# Altium integrated library TI_Logic_Little_Logic.IntLib: 1164 symbols (part 30 of 35)
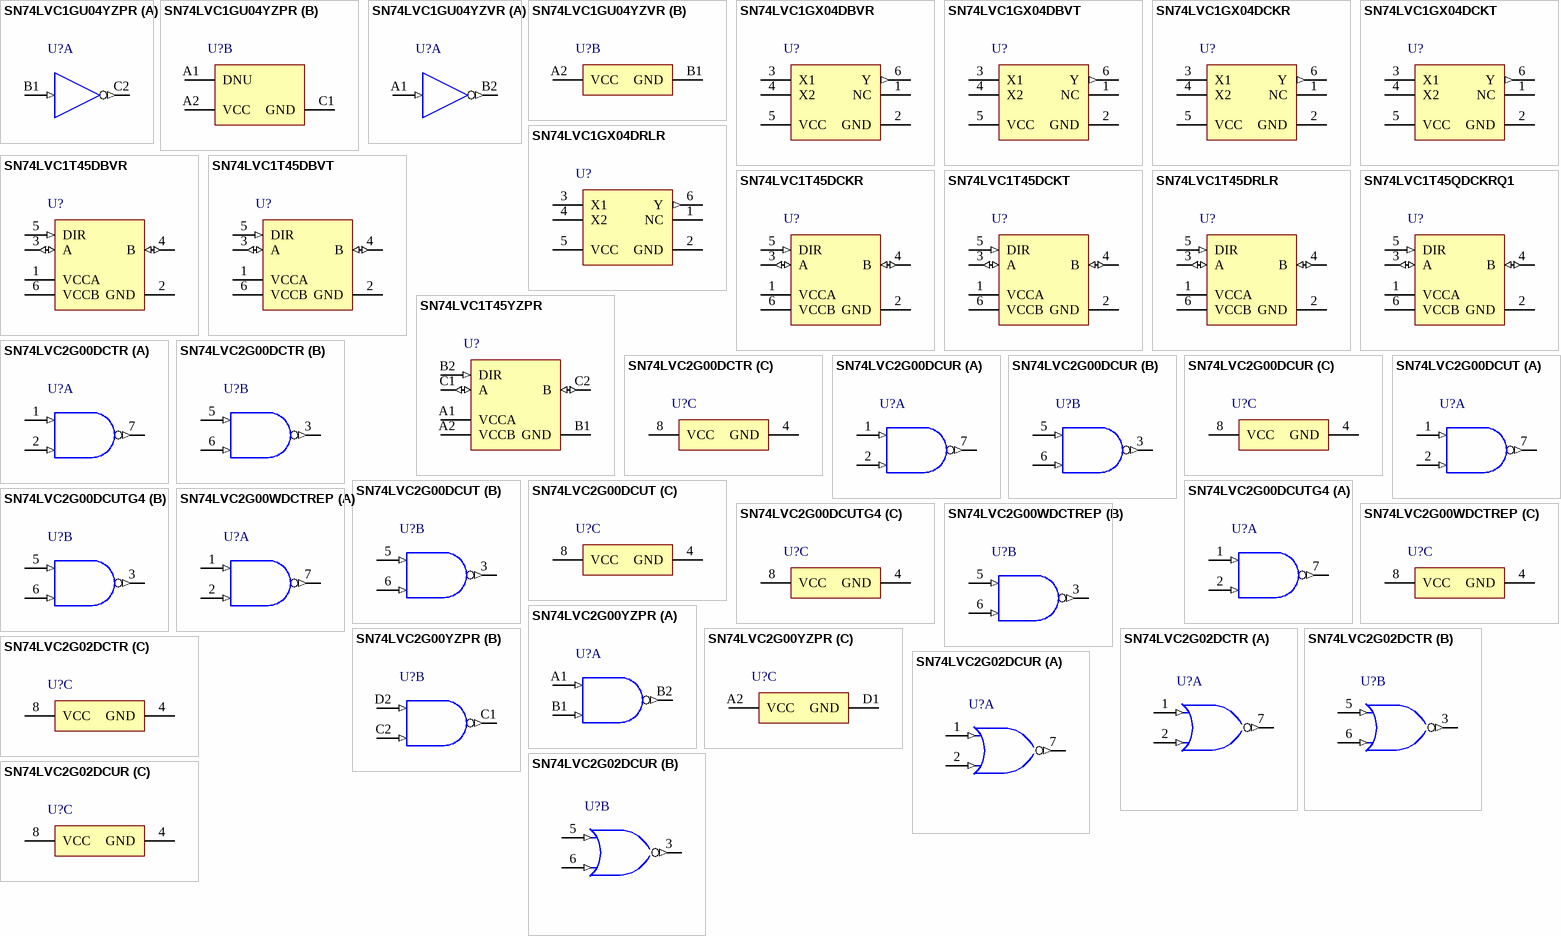
[diagram p89: symbols SN74LVC1GU04YZPR to SN74LVC2G02DCUR]

## SN74LVC1T45DBVT
designator U?
Single-Bit Dual-Supply Bus Transceiver with Configurable Voltage Translation and 3-State Outputs, DBV0006A, SMALL T&R; Generic Part Number: SN74LVC1T45; Manufacturer: Texas Instruments; PartNumber: SN74LVC1T45DBVT; VCC(Min)(V): 1.65; VCC(Max)(V): 5.5; Output Type: CMOS; ICC @ Nom Voltage(Max)(mA): 0.004; Input Type: CMOS/TTL; Bits(#): 1; F @ Nom Voltage(Max)(Mhz): 150; Rating: Catalog; Technology Family: LVC; Voltage(Nom)(V): 1.8,2.5,3.3,5; Schmitt Trigger: No; Output Drive (IOL/IOH)(Max)(mA): 32/-32; tpd @ Nom Voltage(Max)(ns): 15.5,8,5.8,4.4; Logic: True; Sub-Family: Dual Supply Translator; 3-State Output: Yes; DatasheetVersion: SCES515K; PackageReference: DBV0006A; Supplier 1: Mouser; Supplier Part Number 1: 595-SN74LVC1T45DBVT; Supplier 2: Digi-Key; Supplier Part Number 2: 296-30381-2-ND; Supplier 3: Digi-Key; Supplier Part Number 3: 296-30381-1-ND; Supplier 4: Digi-Key; Supplier Part Number 4: 296-30381-6-ND; Operating Temperature Range(C): -40 to 85; ComponentLink1Description: Manufacturer URL; ComponentLink1URL: http://www.ti.com/; ComponentLink2Description: Datasheet; ComponentLink2URL: http://www.ti.com/lit/ds/symlink/sn74lvc1t45.pdf
footprint DBV0006A_N (SOT23, 6-Leads, Body 3.05x1.75mm, Pitch 0.95mm, IPC Medium Density)
footprint DBV0006A_M (SOT23, 6-Leads, Body 3.05x1.75mm, Pitch 0.95mm, IPC Low Density)
footprint DBV0006A_L (SOT23, 6-Leads, Body 3.05x1.75mm, Pitch 0.95mm, IPC High Density)
pins: 1 VCCA (power), 2 GND (power), 3 A (io), 4 B (io), 5 DIR (in), 6 VCCB (power)

## SN74LVC1T45DCKR
designator U?
Single-Bit Dual-Supply Bus Transceiver with Configurable Voltage Translation and 3-State Outputs, DCK0006A, LARGE T&R; Generic Part Number: SN74LVC1T45; Manufacturer: Texas Instruments; PartNumber: SN74LVC1T45DCKR; VCC(Min)(V): 1.65; VCC(Max)(V): 5.5; Output Type: CMOS; ICC @ Nom Voltage(Max)(mA): 0.004; Input Type: CMOS/TTL; Bits(#): 1; F @ Nom Voltage(Max)(Mhz): 150; Rating: Catalog; Technology Family: LVC; Voltage(Nom)(V): 1.8,2.5,3.3,5; Schmitt Trigger: No; Output Drive (IOL/IOH)(Max)(mA): 32/-32; tpd @ Nom Voltage(Max)(ns): 15.5,8,5.8,4.4; Logic: True; Sub-Family: Dual Supply Translator; 3-State Output: Yes; DatasheetVersion: SCES515K; PackageReference: DCK0006A; Supplier 1: Mouser; Supplier Part Number 1: 595-SN74LVC1T45DCKR; Supplier 2: Digi-Key; Supplier Part Number 2: 296-16844-2-ND; Supplier 3: Digi-Key; Supplier Part Number 3: 296-16844-1-ND; Supplier 4: Digi-Key; Supplier Part Number 4: 296-16844-6-ND; Operating Temperature Range(C): -40 to 85; ComponentLink1Description: Manufacturer URL; ComponentLink1URL: http://www.ti.com/; ComponentLink2Description: Datasheet; ComponentLink2URL: http://www.ti.com/lit/ds/symlink/sn74lvc1t45.pdf
footprint DCK0006A_N (SOT23, 6-Leads, Body 2.15x1.4mm, Pitch 0.65mm, IPC Medium Density)
footprint DCK0006A_M (SOT23, 6-Leads, Body 2.15x1.4mm, Pitch 0.65mm, IPC Low Density)
footprint DCK0006A_L (SOT23, 6-Leads, Body 2.15x1.4mm, Pitch 0.65mm, IPC High Density)
pins: 1 VCCA (power), 2 GND (power), 3 A (io), 4 B (io), 5 DIR (in), 6 VCCB (power)

## SN74LVC1T45DCKT
designator U?
Single-Bit Dual-Supply Bus Transceiver with Configurable Voltage Translation and 3-State Outputs, DCK0006A, SMALL T&R; Generic Part Number: SN74LVC1T45; Manufacturer: Texas Instruments; PartNumber: SN74LVC1T45DCKT; VCC(Min)(V): 1.65; VCC(Max)(V): 5.5; Output Type: CMOS; ICC @ Nom Voltage(Max)(mA): 0.004; Input Type: CMOS/TTL; Bits(#): 1; F @ Nom Voltage(Max)(Mhz): 150; Rating: Catalog; Technology Family: LVC; Voltage(Nom)(V): 1.8,2.5,3.3,5; Schmitt Trigger: No; Output Drive (IOL/IOH)(Max)(mA): 32/-32; tpd @ Nom Voltage(Max)(ns): 15.5,8,5.8,4.4; Logic: True; Sub-Family: Dual Supply Translator; 3-State Output: Yes; DatasheetVersion: SCES515K; PackageReference: DCK0006A; Supplier 1: Mouser; Supplier Part Number 1: 595-SN74LVC1T45DCKT; Supplier 2: Digi-Key; Supplier Part Number 2: 296-32317-2-ND; Supplier 3: Digi-Key; Supplier Part Number 3: 296-32317-1-ND; Supplier 4: Digi-Key; Supplier Part Number 4: 296-32317-6-ND; Operating Temperature Range(C): -40 to 85; ComponentLink1Description: Manufacturer URL; ComponentLink1URL: http://www.ti.com/; ComponentLink2Description: Datasheet; ComponentLink2URL: http://www.ti.com/lit/ds/symlink/sn74lvc1t45.pdf
footprint DCK0006A_N (SOT23, 6-Leads, Body 2.15x1.4mm, Pitch 0.65mm, IPC Medium Density)
footprint DCK0006A_M (SOT23, 6-Leads, Body 2.15x1.4mm, Pitch 0.65mm, IPC Low Density)
footprint DCK0006A_L (SOT23, 6-Leads, Body 2.15x1.4mm, Pitch 0.65mm, IPC High Density)
pins: 1 VCCA (power), 2 GND (power), 3 A (io), 4 B (io), 5 DIR (in), 6 VCCB (power)

## SN74LVC1T45DRLR
designator U?
Single-Bit Dual-Supply Bus Transceiver with Configurable Voltage Translation and 3-State Outputs, DRL0006A, LARGE T&R; Generic Part Number: SN74LVC1T45; Manufacturer: Texas Instruments; PartNumber: SN74LVC1T45DRLR; VCC(Min)(V): 1.65; VCC(Max)(V): 5.5; Output Type: CMOS; ICC @ Nom Voltage(Max)(mA): 0.004; Input Type: CMOS/TTL; Bits(#): 1; F @ Nom Voltage(Max)(Mhz): 150; Rating: Catalog; Technology Family: LVC; Voltage(Nom)(V): 1.8,2.5,3.3,5; Schmitt Trigger: No; Output Drive (IOL/IOH)(Max)(mA): 32/-32; tpd @ Nom Voltage(Max)(ns): 15.5,8,5.8,4.4; Logic: True; Sub-Family: Dual Supply Translator; 3-State Output: Yes; DatasheetVersion: SCES515K; PackageReference: DRL0006A; Supplier 1: Mouser; Supplier Part Number 1: 595-SN74LVC1T45DRLR; Supplier 2: Digi-Key; Supplier Part Number 2: 296-20629-2-ND; Supplier 3: Digi-Key; Supplier Part Number 3: 296-20629-1-ND; Supplier 4: Digi-Key; Supplier Part Number 4: 296-20629-6-ND; Operating Temperature Range(C): -40 to 85; ComponentLink1Description: Manufacturer URL; ComponentLink1URL: http://www.ti.com/; ComponentLink2Description: Datasheet; ComponentLink2URL: http://www.ti.com/lit/ds/symlink/sn74lvc1t45.pdf
footprint DRL0006A_N (SOT23, 6-Leads, Body 1.7x1.3mm, Pitch 0.5mm, IPC Medium Density)
footprint DRL0006A_M (SOT23, 6-Leads, Body 1.7x1.3mm, Pitch 0.5mm, IPC Low Density)
footprint DRL0006A_L (SOT23, 6-Leads, Body 1.7x1.3mm, Pitch 0.5mm, IPC High Density)
pins: 1 VCCA (power), 2 GND (power), 3 A (io), 4 B (io), 5 DIR (in), 6 VCCB (power)

## SN74LVC1T45QDCKRQ1
designator U?
Automotive Catalog Single-Bit Dual-Supply Bus Transceiver with Configurable Voltage Translation and, DCK0006A, LARGE T&R; Generic Part Number: SN74LVC1T45-Q1; Manufacturer: Texas Instruments; PartNumber: SN74LVC1T45QDCKRQ1; VCC(Min)(V): 1.65; VCC(Max)(V): 5.5; Output Type: CMOS; Logic: True; ICC @ Nom Voltage(Max)(mA): 0.004; Input Type: CMOS/TTL; Bits(#): 1; F @ Nom Voltage(Max)(Mhz): 150; Technology Family: LVC; Voltage(Nom)(V): 1.8,2.5,3.3,5; Schmitt Trigger: No; Output Drive (IOL/IOH)(Max)(mA): 32/-32; Sub-Family: Dual Supply Translator; 3-State Output: Yes; tpd @ Nom Voltage(Max)(ns): 18.5,11,8.8,7.4; DatasheetVersion: SCES677B; PackageReference: DCK0006A; Supplier 1: Mouser; Supplier Part Number 1: 595-74LVC1T45QDCKRQ1; Supplier 2: Digi-Key; Supplier Part Number 2: 296-39212-2-ND; Supplier 3: Digi-Key; Supplier Part Number 3: 296-39212-1-ND; Supplier 4: Digi-Key; Supplier Part Number 4: 296-39212-6-ND; Operating Temperature Range(C): -40 to 125; Rating: Automotive; ComponentLink1Description: Manufacturer URL; ComponentLink1URL: http://www.ti.com/; ComponentLink2Description: Datasheet; ComponentLink2URL: http://www.ti.com/lit/ds/symlink/sn74lvc1t45-q1.pdf
footprint DCK0006A_N (SOT23, 6-Leads, Body 2.15x1.4mm, Pitch 0.65mm, IPC Medium Density)
footprint DCK0006A_M (SOT23, 6-Leads, Body 2.15x1.4mm, Pitch 0.65mm, IPC Low Density)
footprint DCK0006A_L (SOT23, 6-Leads, Body 2.15x1.4mm, Pitch 0.65mm, IPC High Density)
pins: 1 VCCA (power), 2 GND (power), 3 A (io), 4 B (io), 5 DIR (in), 6 VCCB (power)

## SN74LVC1T45YZPR
designator U?
Single-Bit Dual-Supply Bus Transceiver with Configurable Voltage Translation and 3-State Outputs, YZP0006ADAD, LARGE T&R; Generic Part Number: SN74LVC1T45; Manufacturer: Texas Instruments; PartNumber: SN74LVC1T45YZPR; VCC(Min)(V): 1.65; VCC(Max)(V): 5.5; Output Type: CMOS; ICC @ Nom Voltage(Max)(mA): 0.004; Input Type: CMOS/TTL; Bits(#): 1; F @ Nom Voltage(Max)(Mhz): 150; Rating: Catalog; Technology Family: LVC; Voltage(Nom)(V): 1.8,2.5,3.3,5; Schmitt Trigger: No; Output Drive (IOL/IOH)(Max)(mA): 32/-32; tpd @ Nom Voltage(Max)(ns): 15.5,8,5.8,4.4; Logic: True; Sub-Family: Dual Supply Translator; 3-State Output: Yes; DatasheetVersion: SCES515K; PackageReference: YZP0006ADAD; Supplier 1: Mouser; Supplier Part Number 1: 595-SN74LVC1T45YZPR; Supplier 2: Digi-Key; Supplier Part Number 2: 296-17018-2-ND; Supplier 3: Digi-Key; Supplier Part Number 3: 296-17018-1-ND; Supplier 4: Digi-Key; Supplier Part Number 4: 296-17018-6-ND; Operating Temperature Range(C): -40 to 85; ComponentLink1Description: Manufacturer URL; ComponentLink1URL: http://www.ti.com/; ComponentLink2Description: Datasheet; ComponentLink2URL: http://www.ti.com/lit/ds/symlink/sn74lvc1t45.pdf
footprint YZP0006ADAD (BGA, 6-Balls, Body 1.39x0.89mm, Pitch 0.5mm)
pins: A1 VCCA (power) "A-port supply voltage. 1.2 V =< VCCA =< 3.6 V", A2 VCCB (power) "B-port supply voltage. 1.2 V =< VCCB =< 3.6 V", B1 GND (power) "Ground", B2 DIR (in) "Direction control signal", C1 A (io) "Input/output A. Referenced to VCCA", C2 B (io) "Input/output B. Referenced to VCCB."

## SN74LVC2G00DCTR
designator U?
Dual 2-Input Positive-NAND Gate, DCT0008A, LARGE T&R; Generic Part Number: SN74LVC2G00; Manufacturer: Texas Instruments; PartNumber: SN74LVC2G00DCTR; VCC(Min)(V): 1.65; VCC(Max)(V): 5.5; Output Type: CMOS; ICC @ Nom Voltage(Max)(mA): 0.01; Input Type: CMOS/TTL; Bits(#): 2; F @ Nom Voltage(Max)(Mhz): 150; Rating: Catalog; Technology Family: LVC; Voltage(Nom)(V): 1.8,2.5,3.3,5; Schmitt Trigger: No; Output Drive (IOL/IOH)(Max)(mA): 32/-32; tpd @ Nom Voltage(Max)(ns): 9.4,5.5,4.9,3.8; Logic: True; Gate Type: NAND; DatasheetVersion: SCES193N; PackageReference: DCT0008A; Supplier 1: Mouser; Supplier Part Number 1: 595-SN74LVC2G00DCTR; Supplier 2: Digi-Key; Supplier Part Number 2: 296-13257-2-ND; Supplier 3: Digi-Key; Supplier Part Number 3: 296-13257-1-ND; Supplier 4: Digi-Key; Supplier Part Number 4: 296-13257-6-ND; Operating Temperature Range(C): -40 to 125; Sub-Family: NAND Gate; 3-State Output: No; ComponentLink1Description: Manufacturer URL; ComponentLink1URL: http://www.ti.com/; ComponentLink2Description: Datasheet; ComponentLink2URL: http://www.ti.com/lit/ds/symlink/sn74lvc2g00.pdf
footprint DCT0008A_N (SOP, 8-Leads, Body 2.9x3.2mm, Pitch 0.65mm, IPC Medium Density)
footprint DCT0008A_M (SOP, 8-Leads, Body 2.9x3.2mm, Pitch 0.65mm, IPC Low Density)
footprint DCT0008A_L (SOP, 8-Leads, Body 2.9x3.2mm, Pitch 0.65mm, IPC High Density)
part A pins: 1 1A (in) "A input for gate 1", 2 1B (in) "B input for gate 1", 7 1Y (out) "Output for gate 1"
part B pins: 3 2Y (out) "Output for gate 2", 5 2A (in) "A input for gate 2", 6 2B (in) "B input for gate 2"
part C pins: 4 GND (power) "Ground", 8 VCC (power) "Power input."

## SN74LVC2G00DCUR
designator U?
Dual 2-Input Positive-NAND Gate, DCU0008A, LARGE T&R; Generic Part Number: SN74LVC2G00; Manufacturer: Texas Instruments; PartNumber: SN74LVC2G00DCUR; VCC(Min)(V): 1.65; VCC(Max)(V): 5.5; Output Type: CMOS; ICC @ Nom Voltage(Max)(mA): 0.01; Input Type: CMOS/TTL; Bits(#): 2; F @ Nom Voltage(Max)(Mhz): 150; Rating: Catalog; Technology Family: LVC; Voltage(Nom)(V): 1.8,2.5,3.3,5; Schmitt Trigger: No; Output Drive (IOL/IOH)(Max)(mA): 32/-32; tpd @ Nom Voltage(Max)(ns): 9.4,5.5,4.9,3.8; Logic: True; Gate Type: NAND; DatasheetVersion: SCES193N; PackageReference: DCU0008A; Supplier 1: Mouser; Supplier Part Number 1: 595-SN74LVC2G00DCUR; Supplier 2: Digi-Key; Supplier Part Number 2: 296-13258-2-ND; Supplier 3: Digi-Key; Supplier Part Number 3: 296-13258-1-ND; Supplier 4: Digi-Key; Supplier Part Number 4: 296-13258-6-ND; Operating Temperature Range(C): -40 to 125; Sub-Family: NAND Gate; 3-State Output: No; ComponentLink1Description: Manufacturer URL; ComponentLink1URL: http://www.ti.com/; ComponentLink2Description: Datasheet; ComponentLink2URL: http://www.ti.com/lit/ds/symlink/sn74lvc2g00.pdf
footprint DCU0008A_N (SOP, 8-Leads, Body 2.4x2.1mm, Pitch 0.5mm, IPC Medium Density)
footprint DCU0008A_M (SOP, 8-Leads, Body 2.4x2.1mm, Pitch 0.5mm, IPC Low Density)
footprint DCU0008A_L (SOP, 8-Leads, Body 2.4x2.1mm, Pitch 0.5mm, IPC High Density)
part A pins: 1 1A (in) "A input for gate 1", 2 1B (in) "B input for gate 1", 7 1Y (out) "Output for gate 1"
part B pins: 3 2Y (out) "Output for gate 2", 5 2A (in) "A input for gate 2", 6 2B (in) "B input for gate 2"
part C pins: 4 GND (power) "Ground", 8 VCC (power) "Power input."

## SN74LVC2G00DCUT
designator U?
Dual 2-Input Positive-NAND Gate, DCU0008A, SMALL T&R; Generic Part Number: SN74LVC2G00; Manufacturer: Texas Instruments; PartNumber: SN74LVC2G00DCUT; VCC(Min)(V): 1.65; VCC(Max)(V): 5.5; Output Type: CMOS; ICC @ Nom Voltage(Max)(mA): 0.01; Input Type: CMOS/TTL; Bits(#): 2; F @ Nom Voltage(Max)(Mhz): 150; Rating: Catalog; Technology Family: LVC; Voltage(Nom)(V): 1.8,2.5,3.3,5; Schmitt Trigger: No; Output Drive (IOL/IOH)(Max)(mA): 32/-32; tpd @ Nom Voltage(Max)(ns): 9.4,5.5,4.9,3.8; Logic: True; Gate Type: NAND; DatasheetVersion: SCES193N; PackageReference: DCU0008A; Supplier 1: Mouser; Supplier Part Number 1: 595-SN74LVC2G00DCUT; Supplier 2: Digi-Key; Supplier Part Number 2: 296-32318-2-ND; Supplier 3: Digi-Key; Supplier Part Number 3: 296-32318-1-ND; Supplier 4: Digi-Key; Supplier Part Number 4: 296-32318-6-ND; Operating Temperature Range(C): -40 to 125; Sub-Family: NAND Gate; 3-State Output: No; ComponentLink1Description: Manufacturer URL; ComponentLink1URL: http://www.ti.com/; ComponentLink2Description: Datasheet; ComponentLink2URL: http://www.ti.com/lit/ds/symlink/sn74lvc2g00.pdf
footprint DCU0008A_N (SOP, 8-Leads, Body 2.4x2.1mm, Pitch 0.5mm, IPC Medium Density)
footprint DCU0008A_M (SOP, 8-Leads, Body 2.4x2.1mm, Pitch 0.5mm, IPC Low Density)
footprint DCU0008A_L (SOP, 8-Leads, Body 2.4x2.1mm, Pitch 0.5mm, IPC High Density)
part A pins: 1 1A (in) "A input for gate 1", 2 1B (in) "B input for gate 1", 7 1Y (out) "Output for gate 1"
part B pins: 3 2Y (out) "Output for gate 2", 5 2A (in) "A input for gate 2", 6 2B (in) "B input for gate 2"
part C pins: 4 GND (power) "Ground", 8 VCC (power) "Power input."

## SN74LVC2G00DCUTG4
designator U?
Dual 2-Input Positive-NAND Gate, DCU0008A, SMALL T&R; Generic Part Number: SN74LVC2G00; Manufacturer: Texas Instruments; PartNumber: SN74LVC2G00DCUTG4; VCC(Min)(V): 1.65; VCC(Max)(V): 5.5; Output Type: CMOS; ICC @ Nom Voltage(Max)(mA): 0.01; Input Type: CMOS/TTL; Bits(#): 2; F @ Nom Voltage(Max)(Mhz): 150; Rating: Catalog; Technology Family: LVC; Voltage(Nom)(V): 1.8,2.5,3.3,5; Schmitt Trigger: No; Output Drive (IOL/IOH)(Max)(mA): 32/-32; tpd @ Nom Voltage(Max)(ns): 9.4,5.5,4.9,3.8; Logic: True; Gate Type: NAND; DatasheetVersion: SCES193N; PackageReference: DCU0008A; Supplier 1: Mouser; Supplier Part Number 1: 595-74LVC2G00DCUTG4; Supplier 2: Digi-Key; Supplier Part Number 2: SN74LVC2G00DCUTG4-ND; Operating Temperature Range(C): -40 to 125; Sub-Family: NAND Gate; 3-State Output: No; ComponentLink1Description: Manufacturer URL; ComponentLink1URL: http://www.ti.com/; ComponentLink2Description: Datasheet; ComponentLink2URL: http://www.ti.com/lit/ds/symlink/sn74lvc2g00.pdf
footprint DCU0008A_N (SOP, 8-Leads, Body 2.4x2.1mm, Pitch 0.5mm, IPC Medium Density)
footprint DCU0008A_M (SOP, 8-Leads, Body 2.4x2.1mm, Pitch 0.5mm, IPC Low Density)
footprint DCU0008A_L (SOP, 8-Leads, Body 2.4x2.1mm, Pitch 0.5mm, IPC High Density)
part A pins: 1 1A (in) "A input for gate 1", 2 1B (in) "B input for gate 1", 7 1Y (out) "Output for gate 1"
part B pins: 3 2Y (out) "Output for gate 2", 5 2A (in) "A input for gate 2", 6 2B (in) "B input for gate 2"
part C pins: 4 GND (power) "Ground", 8 VCC (power) "Power input."

## SN74LVC2G00WDCTREP
designator U?
Enhanced Product Dual 2-Input Positive-Nand Gate, DCT0008A, LARGE T&R; Generic Part Number: SN74LVC2G00W-EP; Manufacturer: Texas Instruments; PartNumber: SN74LVC2G00WDCTREP; VCC(Min)(V): 1.65; VCC(Max)(V): 5.5; Output Type: CMOS; ICC @ Nom Voltage(Max)(mA): 0.01; Input Type: CMOS/TTL; Bits(#): 2; F @ Nom Voltage(Max)(Mhz): 150; Rating: HiRel Enhanced Product; Technology Family: LVC; Voltage(Nom)(V): 1.8,2.5,3.3,5; Schmitt Trigger: No; Output Drive (IOL/IOH)(Max)(mA): 32/-32; tpd @ Nom Voltage(Max)(ns): 8.9,5.8,5.3,4.3; Logic: True; Gate Type: NAND; DatasheetVersion: SCES645; PackageReference: DCT0008A; Supplier 1: Mouser; Supplier Part Number 1: 595-SN74L2G00WDCTREP; Supplier 2: Digi-Key; Supplier Part Number 2: 296-19507-2-ND; Supplier 3: Digi-Key; Supplier Part Number 3: 296-19507-1-ND; Supplier 4: Digi-Key; Supplier Part Number 4: 296-19507-6-ND; Operating Temperature Range(C): -55 to 115; Sub-Family: NAND Gate; 3-State Output: No; ComponentLink1Description: Manufacturer URL; ComponentLink1URL: http://www.ti.com/; ComponentLink2Description: Datasheet; ComponentLink2URL: http://www.ti.com/lit/ds/symlink/sn74lvc2g00w-ep.pdf
footprint DCT0008A_N (SOP, 8-Leads, Body 2.9x3.2mm, Pitch 0.65mm, IPC Medium Density)
footprint DCT0008A_M (SOP, 8-Leads, Body 2.9x3.2mm, Pitch 0.65mm, IPC Low Density)
footprint DCT0008A_L (SOP, 8-Leads, Body 2.9x3.2mm, Pitch 0.65mm, IPC High Density)
part A pins: 1 1A (in) "A input for gate 1", 2 1B (in) "B input for gate 1", 7 1Y (out) "Output for gate 1"
part B pins: 3 2Y (out) "Output for gate 2", 5 2A (in) "A input for gate 2", 6 2B (in) "B input for gate 2"
part C pins: 4 GND (power) "Ground", 8 VCC (power) "Power input."

## SN74LVC2G00YZPR
designator U?
Dual 2-Input Positive-NAND Gate, YZP0008ADAD, LARGE T&R; Generic Part Number: SN74LVC2G00; Manufacturer: Texas Instruments; PartNumber: SN74LVC2G00YZPR; VCC(Min)(V): 1.65; VCC(Max)(V): 5.5; Output Type: CMOS; ICC @ Nom Voltage(Max)(mA): 0.01; Input Type: CMOS/TTL; Bits(#): 2; F @ Nom Voltage(Max)(Mhz): 150; Rating: Catalog; Technology Family: LVC; Voltage(Nom)(V): 1.8,2.5,3.3,5; Schmitt Trigger: No; Output Drive (IOL/IOH)(Max)(mA): 32/-32; tpd @ Nom Voltage(Max)(ns): 9.4,5.5,4.9,3.8; Logic: True; Gate Type: NAND; DatasheetVersion: SCES193N; PackageReference: YZP0008ADAD; Supplier 1: Mouser; Supplier Part Number 1: 595-SN74LVC2G00YZPR; Supplier 2: Digi-Key; Supplier Part Number 2: 296-18797-2-ND; Supplier 3: Digi-Key; Supplier Part Number 3: 296-18797-1-ND; Operating Temperature Range(C): -40 to 125; Sub-Family: NAND Gate; 3-State Output: No; ComponentLink1Description: Manufacturer URL; ComponentLink1URL: http://www.ti.com/; ComponentLink2Description: Datasheet; ComponentLink2URL: http://www.ti.com/lit/ds/symlink/sn74lvc2g00.pdf
footprint YZP0008ADAD (BGA, 8-Balls, Body 1.89x0.89mm, Pitch 0.5mm)
part A pins: A1 1A (in) "A input for gate 1", B1 1B (in) "B input for gate 1", B2 1Y (out) "Output for gate 1"
part B pins: C1 2Y (out) "Output for gate 2", C2 2B (in) "B input for gate 2", D2 2A (in) "A input for gate 2"
part C pins: A2 VCC (power) "Power input.", D1 GND (power) "Ground"

## SN74LVC2G02DCTR
designator U?
Dual 2-Input Positive-NOR Gate, DCT0008A, LARGE T&R; Generic Part Number: SN74LVC2G02; Manufacturer: Texas Instruments; PartNumber: SN74LVC2G02DCTR; VCC(Min)(V): 1.65; VCC(Max)(V): 5.5; Output Type: CMOS; ICC @ Nom Voltage(Max)(mA): 0.01; Input Type: CMOS/TTL; Bits(#): 2; F @ Nom Voltage(Max)(Mhz): 150; Rating: Catalog; Technology Family: LVC; Voltage(Nom)(V): 1.8,2.5,3.3,5; Schmitt Trigger: No; Output Drive (IOL/IOH)(Max)(mA): 32/-32; tpd @ Nom Voltage(Max)(ns): 10.9,6.4,5.9,5.4; Logic: True; Gate Type: NOR; DatasheetVersion: SCES194M; PackageReference: DCT0008A; Supplier 1: Mouser; Supplier Part Number 1: 595-SN74LVC2G02DCTR; Supplier 2: Digi-Key; Supplier Part Number 2: 296-13259-2-ND; Supplier 3: Digi-Key; Supplier Part Number 3: 296-13259-1-ND; Supplier 4: Digi-Key; Supplier Part Number 4: 296-13259-6-ND; Operating Temperature Range(C): -40 to 125; Sub-Family: NOR Gate; 3-State Output: No; ComponentLink1Description: Manufacturer URL; ComponentLink1URL: http://www.ti.com/; ComponentLink2Description: Datasheet; ComponentLink2URL: http://www.ti.com/lit/ds/symlink/sn74lvc2g02.pdf
footprint DCT0008A_N (SOP, 8-Leads, Body 2.9x3.2mm, Pitch 0.65mm, IPC Medium Density)
footprint DCT0008A_M (SOP, 8-Leads, Body 2.9x3.2mm, Pitch 0.65mm, IPC Low Density)
footprint DCT0008A_L (SOP, 8-Leads, Body 2.9x3.2mm, Pitch 0.65mm, IPC High Density)
part A pins: 1 1A (in), 2 1B (in), 7 1Y (out)
part B pins: 3 2Y (out), 5 2A (in), 6 2B (in)
part C pins: 4 GND (power), 8 VCC (power)

## SN74LVC2G02DCUR
designator U?
Dual 2-Input Positive-NOR Gate, DCU0008A, LARGE T&R; Generic Part Number: SN74LVC2G02; Manufacturer: Texas Instruments; PartNumber: SN74LVC2G02DCUR; VCC(Min)(V): 1.65; VCC(Max)(V): 5.5; Output Type: CMOS; ICC @ Nom Voltage(Max)(mA): 0.01; Input Type: CMOS/TTL; Bits(#): 2; F @ Nom Voltage(Max)(Mhz): 150; Rating: Catalog; Technology Family: LVC; Voltage(Nom)(V): 1.8,2.5,3.3,5; Schmitt Trigger: No; Output Drive (IOL/IOH)(Max)(mA): 32/-32; tpd @ Nom Voltage(Max)(ns): 10.9,6.4,5.9,5.4; Logic: True; Gate Type: NOR; DatasheetVersion: SCES194M; PackageReference: DCU0008A; Supplier 1: Mouser; Supplier Part Number 1: 595-SN74LVC2G02DCUR; Supplier 2: Digi-Key; Supplier Part Number 2: 296-13260-2-ND; Supplier 3: Digi-Key; Supplier Part Number 3: 296-13260-1-ND; Supplier 4: Digi-Key; Supplier Part Number 4: 296-13260-6-ND; Operating Temperature Range(C): -40 to 125; Sub-Family: NOR Gate; 3-State Output: No; ComponentLink1Description: Manufacturer URL; ComponentLink1URL: http://www.ti.com/; ComponentLink2Description: Datasheet; ComponentLink2URL: http://www.ti.com/lit/ds/symlink/sn74lvc2g02.pdf
footprint DCU0008A_N (SOP, 8-Leads, Body 2.4x2.1mm, Pitch 0.5mm, IPC Medium Density)
footprint DCU0008A_M (SOP, 8-Leads, Body 2.4x2.1mm, Pitch 0.5mm, IPC Low Density)
footprint DCU0008A_L (SOP, 8-Leads, Body 2.4x2.1mm, Pitch 0.5mm, IPC High Density)
part A pins: 1 1A (in), 2 1B (in), 7 1Y (out)
part B pins: 3 2Y (out), 5 2A (in), 6 2B (in)
part C pins: 4 GND (power), 8 VCC (power)

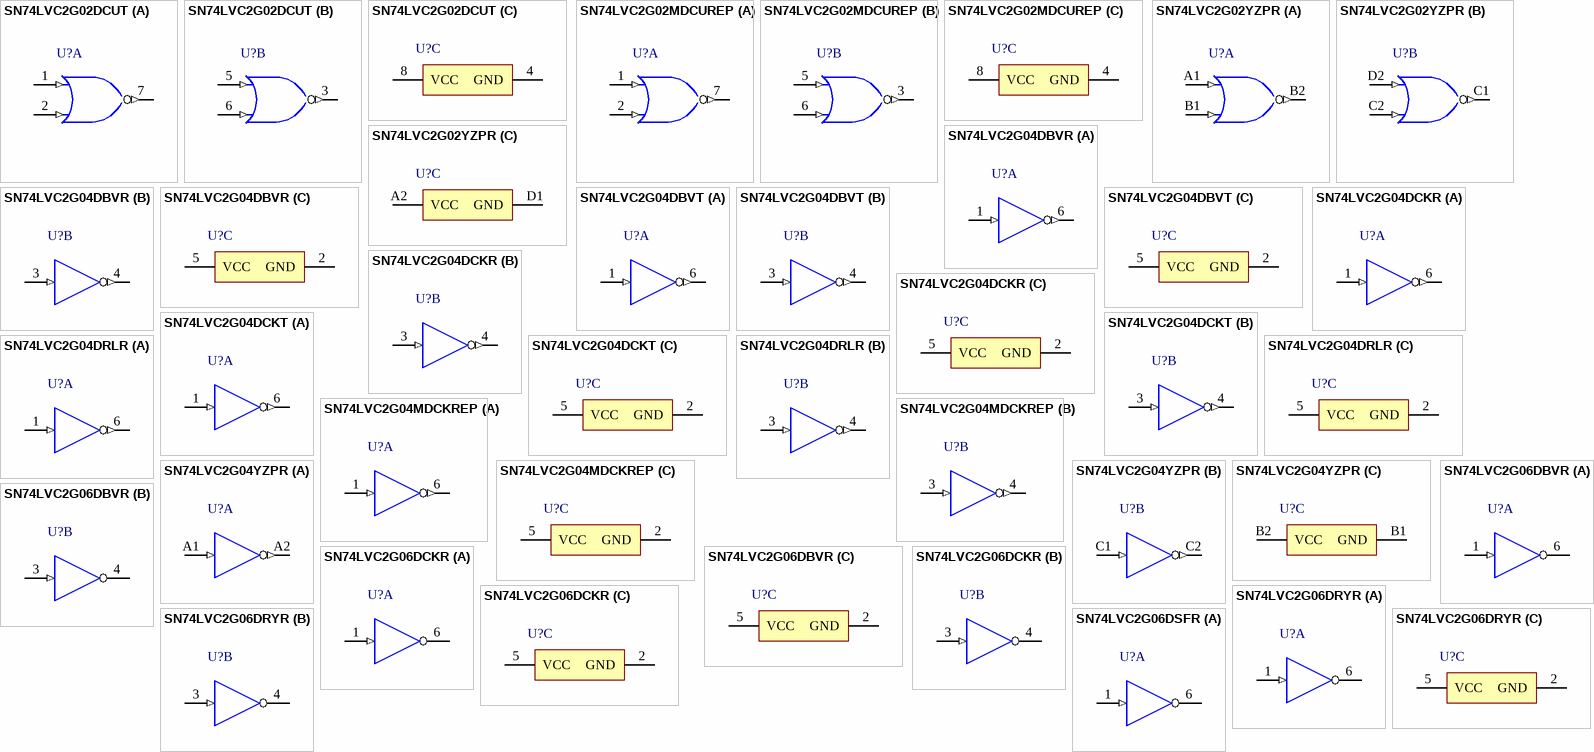
[diagram p48: symbols SN74LVC2G02DCUT to SN74LVC2G06DSFR]

## SN74LVC2G02DCUT
designator U?
Dual 2-Input Positive-NOR Gate, DCU0008A, SMALL T&R; Generic Part Number: SN74LVC2G02; Manufacturer: Texas Instruments; PartNumber: SN74LVC2G02DCUT; VCC(Min)(V): 1.65; VCC(Max)(V): 5.5; Output Type: CMOS; ICC @ Nom Voltage(Max)(mA): 0.01; Input Type: CMOS/TTL; Bits(#): 2; F @ Nom Voltage(Max)(Mhz): 150; Rating: Catalog; Technology Family: LVC; Voltage(Nom)(V): 1.8,2.5,3.3,5; Schmitt Trigger: No; Output Drive (IOL/IOH)(Max)(mA): 32/-32; tpd @ Nom Voltage(Max)(ns): 10.9,6.4,5.9,5.4; Logic: True; Gate Type: NOR; DatasheetVersion: SCES194M; PackageReference: DCU0008A; Supplier 1: Mouser; Supplier Part Number 1: 595-SN74LVC2G02DCUT; Supplier 2: Digi-Key; Supplier Part Number 2: 296-32319-2-ND; Supplier 3: Digi-Key; Supplier Part Number 3: 296-32319-1-ND; Supplier 4: Digi-Key; Supplier Part Number 4: 296-32319-6-ND; Operating Temperature Range(C): -40 to 125; Sub-Family: NOR Gate; 3-State Output: No; ComponentLink1Description: Manufacturer URL; ComponentLink1URL: http://www.ti.com/; ComponentLink2Description: Datasheet; ComponentLink2URL: http://www.ti.com/lit/ds/symlink/sn74lvc2g02.pdf
footprint DCU0008A_N (SOP, 8-Leads, Body 2.4x2.1mm, Pitch 0.5mm, IPC Medium Density)
footprint DCU0008A_M (SOP, 8-Leads, Body 2.4x2.1mm, Pitch 0.5mm, IPC Low Density)
footprint DCU0008A_L (SOP, 8-Leads, Body 2.4x2.1mm, Pitch 0.5mm, IPC High Density)
part A pins: 1 1A (in), 2 1B (in), 7 1Y (out)
part B pins: 3 2Y (out), 5 2A (in), 6 2B (in)
part C pins: 4 GND (power), 8 VCC (power)

## SN74LVC2G02MDCUREP
designator U?
Enhanced Product Dual 2-Input Positive-Nor Gate, DCU0008A, LARGE T&R; Generic Part Number: SN74LVC2G02-EP; Manufacturer: Texas Instruments; PartNumber: SN74LVC2G02MDCUREP; VCC(Min)(V): 1.65; VCC(Max)(V): 5.5; Output Type: CMOS; ICC @ Nom Voltage(Max)(mA): 0.01; Input Type: CMOS/TTL; Bits(#): 2; F @ Nom Voltage(Max)(Mhz): 150; Rating: HiRel Enhanced Product; Technology Family: LVC; Voltage(Nom)(V): 1.8,2.5,3.3,5; Schmitt Trigger: No; Output Drive (IOL/IOH)(Max)(mA): 32/-32; tpd @ Nom Voltage(Max)(ns): 5.9,5.4; Logic: True; Gate Type: NOR; DatasheetVersion: SGDS034A; PackageReference: DCU0008A; Supplier 1: Mouser; Supplier Part Number 1: 595-74LVC2G02MDCUREP; Operating Temperature Range(C): -55 to 125; Sub-Family: NOR Gate; 3-State Output: No; ComponentLink1Description: Manufacturer URL; ComponentLink1URL: http://www.ti.com/; ComponentLink2Description: Datasheet; ComponentLink2URL: http://www.ti.com/lit/ds/symlink/sn74lvc2g02-ep.pdf
footprint DCU0008A_N (SOP, 8-Leads, Body 2.4x2.1mm, Pitch 0.5mm, IPC Medium Density)
footprint DCU0008A_M (SOP, 8-Leads, Body 2.4x2.1mm, Pitch 0.5mm, IPC Low Density)
footprint DCU0008A_L (SOP, 8-Leads, Body 2.4x2.1mm, Pitch 0.5mm, IPC High Density)
part A pins: 1 1A (in), 2 1B (in), 7 1Y (out)
part B pins: 3 2Y (out), 5 2A (in), 6 2B (in)
part C pins: 4 GND (power), 8 VCC (power)

## SN74LVC2G02YZPR
designator U?
Dual 2-Input Positive-NOR Gate, YZP0008ADAD, LARGE T&R; Generic Part Number: SN74LVC2G02; Manufacturer: Texas Instruments; PartNumber: SN74LVC2G02YZPR; VCC(Min)(V): 1.65; VCC(Max)(V): 5.5; Output Type: CMOS; ICC @ Nom Voltage(Max)(mA): 0.01; Input Type: CMOS/TTL; Bits(#): 2; F @ Nom Voltage(Max)(Mhz): 150; Rating: Catalog; Technology Family: LVC; Voltage(Nom)(V): 1.8,2.5,3.3,5; Schmitt Trigger: No; Output Drive (IOL/IOH)(Max)(mA): 32/-32; tpd @ Nom Voltage(Max)(ns): 10.9,6.4,5.9,5.4; Logic: True; Gate Type: NOR; DatasheetVersion: SCES194M; PackageReference: YZP0008ADAD; Supplier 1: Mouser; Supplier Part Number 1: 595-SN74LVC2G02YZPR; Supplier 2: Digi-Key; Supplier Part Number 2: 296-18799-2-ND; Supplier 3: Digi-Key; Supplier Part Number 3: 296-18799-1-ND; Supplier 4: Digi-Key; Supplier Part Number 4: 296-18799-6-ND; Operating Temperature Range(C): -40 to 125; Sub-Family: NOR Gate; 3-State Output: No; ComponentLink1Description: Manufacturer URL; ComponentLink1URL: http://www.ti.com/; ComponentLink2Description: Datasheet; ComponentLink2URL: http://www.ti.com/lit/ds/symlink/sn74lvc2g02.pdf
footprint YZP0008ADAD (BGA, 8-Balls, Body 1.89x0.89mm, Pitch 0.5mm)
part A pins: A1 1A (in), B1 1B (in), B2 1Y (out)
part B pins: C1 2Y (out), C2 2B (in), D2 2A (in)
part C pins: A2 VCC (power), D1 GND (power)

## SN74LVC2G04DBVR
designator U?
Dual Inverter, DBV0006A, LARGE T&R; Generic Part Number: SN74LVC2G04; Manufacturer: Texas Instruments; PartNumber: SN74LVC2G04DBVR; VCC(Min)(V): 1.65; VCC(Max)(V): 5.5; Output Type: CMOS; ICC @ Nom Voltage(Max)(mA): 0.01; Input Type: CMOS/TTL; Bits(#): 2; F @ Nom Voltage(Max)(Mhz): 150; Rating: Catalog; Technology Family: LVC; Voltage(Nom)(V): 1.8,2.5,3.3,5; Schmitt Trigger: No; Output Drive (IOL/IOH)(Max)(mA): 32/-32; tpd @ Nom Voltage(Max)(ns): 8,4.9,4.6,3.7; Logic: Inverting; Sub-Family: Inverting Buffer/Driver; DatasheetVersion: SCES195M; PackageReference: DBV0006A; Supplier 1: Mouser; Supplier Part Number 1: 595-SN74LVC2G04DBVR; Supplier 2: Digi-Key; Supplier Part Number 2: 296-13261-2-ND; Supplier 3: Digi-Key; Supplier Part Number 3: 296-13261-1-ND; Supplier 4: Digi-Key; Supplier Part Number 4: 296-13261-6-ND; Operating Temperature Range(C): -40 to 125; 3-State Output: No; ComponentLink1Description: Manufacturer URL; ComponentLink1URL: http://www.ti.com/; ComponentLink2Description: Datasheet; ComponentLink2URL: http://www.ti.com/lit/ds/symlink/sn74lvc2g04.pdf
footprint DBV0006A_N (SOT23, 6-Leads, Body 3.05x1.75mm, Pitch 0.95mm, IPC Medium Density)
footprint DBV0006A_M (SOT23, 6-Leads, Body 3.05x1.75mm, Pitch 0.95mm, IPC Low Density)
footprint DBV0006A_L (SOT23, 6-Leads, Body 3.05x1.75mm, Pitch 0.95mm, IPC High Density)
part A pins: 1 1A (in), 6 1Y (out)
part B pins: 3 2A (in), 4 2Y (out)
part C pins: 2 GND (power), 5 VCC (power)

## SN74LVC2G04DBVT
designator U?
Dual Inverter, DBV0006A, SMALL T&R; Generic Part Number: SN74LVC2G04; Manufacturer: Texas Instruments; PartNumber: SN74LVC2G04DBVT; VCC(Min)(V): 1.65; VCC(Max)(V): 5.5; Output Type: CMOS; ICC @ Nom Voltage(Max)(mA): 0.01; Input Type: CMOS/TTL; Bits(#): 2; F @ Nom Voltage(Max)(Mhz): 150; Rating: Catalog; Technology Family: LVC; Voltage(Nom)(V): 1.8,2.5,3.3,5; Schmitt Trigger: No; Output Drive (IOL/IOH)(Max)(mA): 32/-32; tpd @ Nom Voltage(Max)(ns): 8,4.9,4.6,3.7; Logic: Inverting; Sub-Family: Inverting Buffer/Driver; DatasheetVersion: SCES195M; PackageReference: DBV0006A; Supplier 1: Mouser; Supplier Part Number 1: 595-SN74LVC2G04DBVT; Supplier 2: Digi-Key; Supplier Part Number 2: 296-26612-2-ND; Supplier 3: Digi-Key; Supplier Part Number 3: 296-26612-1-ND; Supplier 4: Digi-Key; Supplier Part Number 4: 296-26612-6-ND; Operating Temperature Range(C): -40 to 125; 3-State Output: No; ComponentLink1Description: Manufacturer URL; ComponentLink1URL: http://www.ti.com/; ComponentLink2Description: Datasheet; ComponentLink2URL: http://www.ti.com/lit/ds/symlink/sn74lvc2g04.pdf
footprint DBV0006A_N (SOT23, 6-Leads, Body 3.05x1.75mm, Pitch 0.95mm, IPC Medium Density)
footprint DBV0006A_M (SOT23, 6-Leads, Body 3.05x1.75mm, Pitch 0.95mm, IPC Low Density)
footprint DBV0006A_L (SOT23, 6-Leads, Body 3.05x1.75mm, Pitch 0.95mm, IPC High Density)
part A pins: 1 1A (in), 6 1Y (out)
part B pins: 3 2A (in), 4 2Y (out)
part C pins: 2 GND (power), 5 VCC (power)

## SN74LVC2G04DCKR
designator U?
Dual Inverter, DCK0006A, LARGE T&R; Generic Part Number: SN74LVC2G04; Manufacturer: Texas Instruments; PartNumber: SN74LVC2G04DCKR; VCC(Min)(V): 1.65; VCC(Max)(V): 5.5; Output Type: CMOS; ICC @ Nom Voltage(Max)(mA): 0.01; Input Type: CMOS/TTL; Bits(#): 2; F @ Nom Voltage(Max)(Mhz): 150; Rating: Catalog; Technology Family: LVC; Voltage(Nom)(V): 1.8,2.5,3.3,5; Schmitt Trigger: No; Output Drive (IOL/IOH)(Max)(mA): 32/-32; tpd @ Nom Voltage(Max)(ns): 8,4.9,4.6,3.7; Logic: Inverting; Sub-Family: Inverting Buffer/Driver; DatasheetVersion: SCES195M; PackageReference: DCK0006A; Supplier 1: Mouser; Supplier Part Number 1: 595-SN74LVC2G04DCKR; Supplier 2: Digi-Key; Supplier Part Number 2: 296-13262-2-ND; Supplier 3: Digi-Key; Supplier Part Number 3: 296-13262-1-ND; Supplier 4: Digi-Key; Supplier Part Number 4: 296-13262-6-ND; Operating Temperature Range(C): -40 to 125; 3-State Output: No; ComponentLink1Description: Manufacturer URL; ComponentLink1URL: http://www.ti.com/; ComponentLink2Description: Datasheet; ComponentLink2URL: http://www.ti.com/lit/ds/symlink/sn74lvc2g04.pdf
footprint DCK0006A_N (SOT23, 6-Leads, Body 2.15x1.4mm, Pitch 0.65mm, IPC Medium Density)
footprint DCK0006A_M (SOT23, 6-Leads, Body 2.15x1.4mm, Pitch 0.65mm, IPC Low Density)
footprint DCK0006A_L (SOT23, 6-Leads, Body 2.15x1.4mm, Pitch 0.65mm, IPC High Density)
part A pins: 1 1A (in), 6 1Y (out)
part B pins: 3 2A (in), 4 2Y (out)
part C pins: 2 GND (power), 5 VCC (power)

## SN74LVC2G04DCKT
designator U?
Dual Inverter, DCK0006A, SMALL T&R; Generic Part Number: SN74LVC2G04; Manufacturer: Texas Instruments; PartNumber: SN74LVC2G04DCKT; VCC(Min)(V): 1.65; VCC(Max)(V): 5.5; Output Type: CMOS; ICC @ Nom Voltage(Max)(mA): 0.01; Input Type: CMOS/TTL; Bits(#): 2; F @ Nom Voltage(Max)(Mhz): 150; Rating: Catalog; Technology Family: LVC; Voltage(Nom)(V): 1.8,2.5,3.3,5; Schmitt Trigger: No; Output Drive (IOL/IOH)(Max)(mA): 32/-32; tpd @ Nom Voltage(Max)(ns): 8,4.9,4.6,3.7; Logic: Inverting; Sub-Family: Inverting Buffer/Driver; DatasheetVersion: SCES195M; PackageReference: DCK0006A; Supplier 1: Mouser; Supplier Part Number 1: 595-SN74LVC2G04DCKT; Supplier 2: Digi-Key; Supplier Part Number 2: 296-26613-2-ND; Supplier 3: Digi-Key; Supplier Part Number 3: 296-26613-1-ND; Supplier 4: Digi-Key; Supplier Part Number 4: 296-26613-6-ND; Operating Temperature Range(C): -40 to 125; 3-State Output: No; ComponentLink1Description: Manufacturer URL; ComponentLink1URL: http://www.ti.com/; ComponentLink2Description: Datasheet; ComponentLink2URL: http://www.ti.com/lit/ds/symlink/sn74lvc2g04.pdf
footprint DCK0006A_N (SOT23, 6-Leads, Body 2.15x1.4mm, Pitch 0.65mm, IPC Medium Density)
footprint DCK0006A_M (SOT23, 6-Leads, Body 2.15x1.4mm, Pitch 0.65mm, IPC Low Density)
footprint DCK0006A_L (SOT23, 6-Leads, Body 2.15x1.4mm, Pitch 0.65mm, IPC High Density)
part A pins: 1 1A (in), 6 1Y (out)
part B pins: 3 2A (in), 4 2Y (out)
part C pins: 2 GND (power), 5 VCC (power)

## SN74LVC2G04DRLR
designator U?
Dual Inverter, DRL0006A, LARGE T&R; Generic Part Number: SN74LVC2G04; Manufacturer: Texas Instruments; PartNumber: SN74LVC2G04DRLR; VCC(Min)(V): 1.65; VCC(Max)(V): 5.5; Output Type: CMOS; ICC @ Nom Voltage(Max)(mA): 0.01; Input Type: CMOS/TTL; Bits(#): 2; F @ Nom Voltage(Max)(Mhz): 150; Rating: Catalog; Technology Family: LVC; Voltage(Nom)(V): 1.8,2.5,3.3,5; Schmitt Trigger: No; Output Drive (IOL/IOH)(Max)(mA): 32/-32; tpd @ Nom Voltage(Max)(ns): 8,4.9,4.6,3.7; Logic: Inverting; Sub-Family: Inverting Buffer/Driver; DatasheetVersion: SCES195M; PackageReference: DRL0006A; Supplier 1: Mouser; Supplier Part Number 1: 595-SN74LVC2G04DRLR; Supplier 2: Digi-Key; Supplier Part Number 2: 296-21064-2-ND; Supplier 3: Digi-Key; Supplier Part Number 3: 296-21064-1-ND; Supplier 4: Digi-Key; Supplier Part Number 4: 296-21064-6-ND; Operating Temperature Range(C): -40 to 125; 3-State Output: No; ComponentLink1Description: Manufacturer URL; ComponentLink1URL: http://www.ti.com/; ComponentLink2Description: Datasheet; ComponentLink2URL: http://www.ti.com/lit/ds/symlink/sn74lvc2g04.pdf
footprint DRL0006A_N (SOT23, 6-Leads, Body 1.7x1.3mm, Pitch 0.5mm, IPC Medium Density)
footprint DRL0006A_M (SOT23, 6-Leads, Body 1.7x1.3mm, Pitch 0.5mm, IPC Low Density)
footprint DRL0006A_L (SOT23, 6-Leads, Body 1.7x1.3mm, Pitch 0.5mm, IPC High Density)
part A pins: 1 1A (in), 6 1Y (out)
part B pins: 3 2A (in), 4 2Y (out)
part C pins: 2 GND (power), 5 VCC (power)

## SN74LVC2G04MDCKREP
designator U?
Enhanced Product Dual Inverter Gate, DCK0006A, LARGE T&R; Generic Part Number: SN74LVC2G04-EP; Manufacturer: Texas Instruments; PartNumber: SN74LVC2G04MDCKREP; VCC(Min)(V): 1.65; VCC(Max)(V): 5.5; Output Type: CMOS; ICC @ Nom Voltage(Max)(mA): 0.01; Input Type: CMOS/TTL; Bits(#): 2; F @ Nom Voltage(Max)(Mhz): 150; Rating: HiRel Enhanced Product; Technology Family: LVC; Voltage(Nom)(V): 1.8,2.5,3.3,5; Schmitt Trigger: No; Output Drive (IOL/IOH)(Max)(mA): 32/-32; tpd @ Nom Voltage(Max)(ns): 8,6,5,4; Logic: Inverting; Sub-Family: Inverting Buffer/Driver; DatasheetVersion: SGLS365; PackageReference: DCK0006A; Supplier 1: Mouser; Supplier Part Number 1: 595-SN74L2G04MDCKREP; Supplier 2: Digi-Key; Supplier Part Number 2: 296-21819-2-ND; Supplier 3: Digi-Key; Supplier Part Number 3: 296-21819-1-ND; Supplier 4: Digi-Key; Supplier Part Number 4: 296-21819-6-ND; Operating Temperature Range(C): -40 to 85,-55 to 125; 3-State Output: No; ComponentLink1Description: Manufacturer URL; ComponentLink1URL: http://www.ti.com/; ComponentLink2Description: Datasheet; ComponentLink2URL: http://www.ti.com/lit/ds/symlink/sn74lvc2g04-ep.pdf
footprint DCK0006A_N (SOT23, 6-Leads, Body 2.15x1.4mm, Pitch 0.65mm, IPC Medium Density)
footprint DCK0006A_M (SOT23, 6-Leads, Body 2.15x1.4mm, Pitch 0.65mm, IPC Low Density)
footprint DCK0006A_L (SOT23, 6-Leads, Body 2.15x1.4mm, Pitch 0.65mm, IPC High Density)
part A pins: 1 1A (in), 6 1Y (out)
part B pins: 3 2A (in), 4 2Y (out)
part C pins: 2 GND (power), 5 VCC (power)

## SN74LVC2G04YZPR
designator U?
Dual Inverter, YZP0006ADAD, LARGE T&R; Generic Part Number: SN74LVC2G04; Manufacturer: Texas Instruments; PartNumber: SN74LVC2G04YZPR; VCC(Min)(V): 1.65; VCC(Max)(V): 5.5; Output Type: CMOS; ICC @ Nom Voltage(Max)(mA): 0.01; Input Type: CMOS/TTL; Bits(#): 2; F @ Nom Voltage(Max)(Mhz): 150; Rating: Catalog; Technology Family: LVC; Voltage(Nom)(V): 1.8,2.5,3.3,5; Schmitt Trigger: No; Output Drive (IOL/IOH)(Max)(mA): 32/-32; tpd @ Nom Voltage(Max)(ns): 8,4.9,4.6,3.7; Logic: Inverting; Sub-Family: Inverting Buffer/Driver; DatasheetVersion: SCES195M; PackageReference: YZP0006ADAD; Supplier 1: Mouser; Supplier Part Number 1: 595-SN74LVC2G04YZPR; Supplier 2: Digi-Key; Supplier Part Number 2: 296-23276-2-ND; Supplier 3: Digi-Key; Supplier Part Number 3: 296-23276-1-ND; Supplier 4: Digi-Key; Supplier Part Number 4: 296-23276-6-ND; Operating Temperature Range(C): -40 to 125; 3-State Output: No; ComponentLink1Description: Manufacturer URL; ComponentLink1URL: http://www.ti.com/; ComponentLink2Description: Datasheet; ComponentLink2URL: http://www.ti.com/lit/ds/symlink/sn74lvc2g04.pdf
footprint YZP0006ADAD (BGA, 6-Balls, Body 1.39x0.89mm, Pitch 0.5mm)
part A pins: A1 1A (in), A2 1Y (out)
part B pins: C1 2A (in), C2 2Y (out)
part C pins: B1 GND (power), B2 VCC (power)

## SN74LVC2G06DBVR
designator U?
Dual Inverter Buffer/Driver with Open-Drain Output, DBV0006A, LARGE T&R; Generic Part Number: SN74LVC2G06; Manufacturer: Texas Instruments; PartNumber: SN74LVC2G06DBVR; VCC(Min)(V): 1.65; VCC(Max)(V): 5.5; Output Type: CMOS; ICC @ Nom Voltage(Max)(mA): 0.01; Input Type: CMOS/TTL; Bits(#): 2; F @ Nom Voltage(Max)(Mhz): 150; Rating: Catalog; Technology Family: LVC; Voltage(Nom)(V): 1.8,2.5,3.3,5; Schmitt Trigger: No; Output Drive (IOL/IOH)(Max)(mA): 32/-32; tpd @ Nom Voltage(Max)(ns): 8.2,4.4,3.9,3.4; Logic: Inverting; Sub-Family: Inverting Buffer/Driver; DatasheetVersion: SCES307I; PackageReference: DBV0006A; Supplier 1: Mouser; Supplier Part Number 1: 595-SN74LVC2G06DBVR; Supplier 2: Digi-Key; Supplier Part Number 2: 296-13492-2-ND; Supplier 3: Digi-Key; Supplier Part Number 3: 296-13492-1-ND; Supplier 4: Digi-Key; Supplier Part Number 4: 296-13492-6-ND; Operating Temperature Range(C): -40 to 125,-40 to 85; 3-State Output: No; ComponentLink1Description: Manufacturer URL; ComponentLink1URL: http://www.ti.com/; ComponentLink2Description: Datasheet; ComponentLink2URL: http://www.ti.com/lit/ds/symlink/sn74lvc2g06.pdf
footprint DBV0006A_N (SOT23, 6-Leads, Body 3.05x1.75mm, Pitch 0.95mm, IPC Medium Density)
footprint DBV0006A_M (SOT23, 6-Leads, Body 3.05x1.75mm, Pitch 0.95mm, IPC Low Density)
footprint DBV0006A_L (SOT23, 6-Leads, Body 3.05x1.75mm, Pitch 0.95mm, IPC High Density)
part A pins: 1 1A (in), 6 1Y (oc)
part B pins: 3 2A (in), 4 2Y (oc)
part C pins: 2 GND (power), 5 VCC (power)

## SN74LVC2G06DCKR
designator U?
Dual Inverter Buffer/Driver with Open-Drain Output, DCK0006A, LARGE T&R; Generic Part Number: SN74LVC2G06; Manufacturer: Texas Instruments; PartNumber: SN74LVC2G06DCKR; VCC(Min)(V): 1.65; VCC(Max)(V): 5.5; Output Type: CMOS; ICC @ Nom Voltage(Max)(mA): 0.01; Input Type: CMOS/TTL; Bits(#): 2; F @ Nom Voltage(Max)(Mhz): 150; Rating: Catalog; Technology Family: LVC; Voltage(Nom)(V): 1.8,2.5,3.3,5; Schmitt Trigger: No; Output Drive (IOL/IOH)(Max)(mA): 32/-32; tpd @ Nom Voltage(Max)(ns): 8.2,4.4,3.9,3.4; Logic: Inverting; Sub-Family: Inverting Buffer/Driver; DatasheetVersion: SCES307I; PackageReference: DCK0006A; Supplier 1: Mouser; Supplier Part Number 1: 595-SN74LVC2G06DCKR; Supplier 2: Digi-Key; Supplier Part Number 2: 296-13493-2-ND; Supplier 3: Digi-Key; Supplier Part Number 3: 296-13493-1-ND; Supplier 4: Digi-Key; Supplier Part Number 4: 296-13493-6-ND; Operating Temperature Range(C): -40 to 125,-40 to 85; 3-State Output: No; ComponentLink1Description: Manufacturer URL; ComponentLink1URL: http://www.ti.com/; ComponentLink2Description: Datasheet; ComponentLink2URL: http://www.ti.com/lit/ds/symlink/sn74lvc2g06.pdf
footprint DCK0006A_N (SOT23, 6-Leads, Body 2.15x1.4mm, Pitch 0.65mm, IPC Medium Density)
footprint DCK0006A_M (SOT23, 6-Leads, Body 2.15x1.4mm, Pitch 0.65mm, IPC Low Density)
footprint DCK0006A_L (SOT23, 6-Leads, Body 2.15x1.4mm, Pitch 0.65mm, IPC High Density)
part A pins: 1 1A (in), 6 1Y (oc)
part B pins: 3 2A (in), 4 2Y (oc)
part C pins: 2 GND (power), 5 VCC (power)

## SN74LVC2G06DRYR
designator U?
Dual Inverter Buffer/Driver with Open-Drain Output, DRY0006A, LARGE T&R; Generic Part Number: SN74LVC2G06; Manufacturer: Texas Instruments; PartNumber: SN74LVC2G06DRYR; VCC(Min)(V): 1.65; VCC(Max)(V): 5.5; Output Type: CMOS; ICC @ Nom Voltage(Max)(mA): 0.01; Input Type: CMOS/TTL; Bits(#): 2; F @ Nom Voltage(Max)(Mhz): 150; Rating: Catalog; Technology Family: LVC; Voltage(Nom)(V): 1.8,2.5,3.3,5; Schmitt Trigger: No; Output Drive (IOL/IOH)(Max)(mA): 32/-32; tpd @ Nom Voltage(Max)(ns): 8.2,4.4,3.9,3.4; Logic: Inverting; Sub-Family: Inverting Buffer/Driver; DatasheetVersion: SCES307I; PackageReference: DRY0006A; Supplier 1: Mouser; Supplier Part Number 1: 595-SN74LVC2G06DRYR; Supplier 2: Digi-Key; Supplier Part Number 2: 296-34873-2-ND; Supplier 3: Digi-Key; Supplier Part Number 3: 296-34873-1-ND; Supplier 4: Digi-Key; Supplier Part Number 4: 296-34873-6-ND; Operating Temperature Range(C): -40 to 125,-40 to 85; 3-State Output: No; ComponentLink1Description: Manufacturer URL; ComponentLink1URL: http://www.ti.com/; ComponentLink2Description: Datasheet; ComponentLink2URL: http://www.ti.com/lit/ds/symlink/sn74lvc2g06.pdf
footprint DRY0006A_V (SON, 6-Leads, Body 1.45x1mm, Pitch 0.5mm)
part A pins: 1 1A (in), 6 1Y (oc)
part B pins: 3 2A (in), 4 2Y (oc)
part C pins: 2 GND (power), 5 VCC (power)

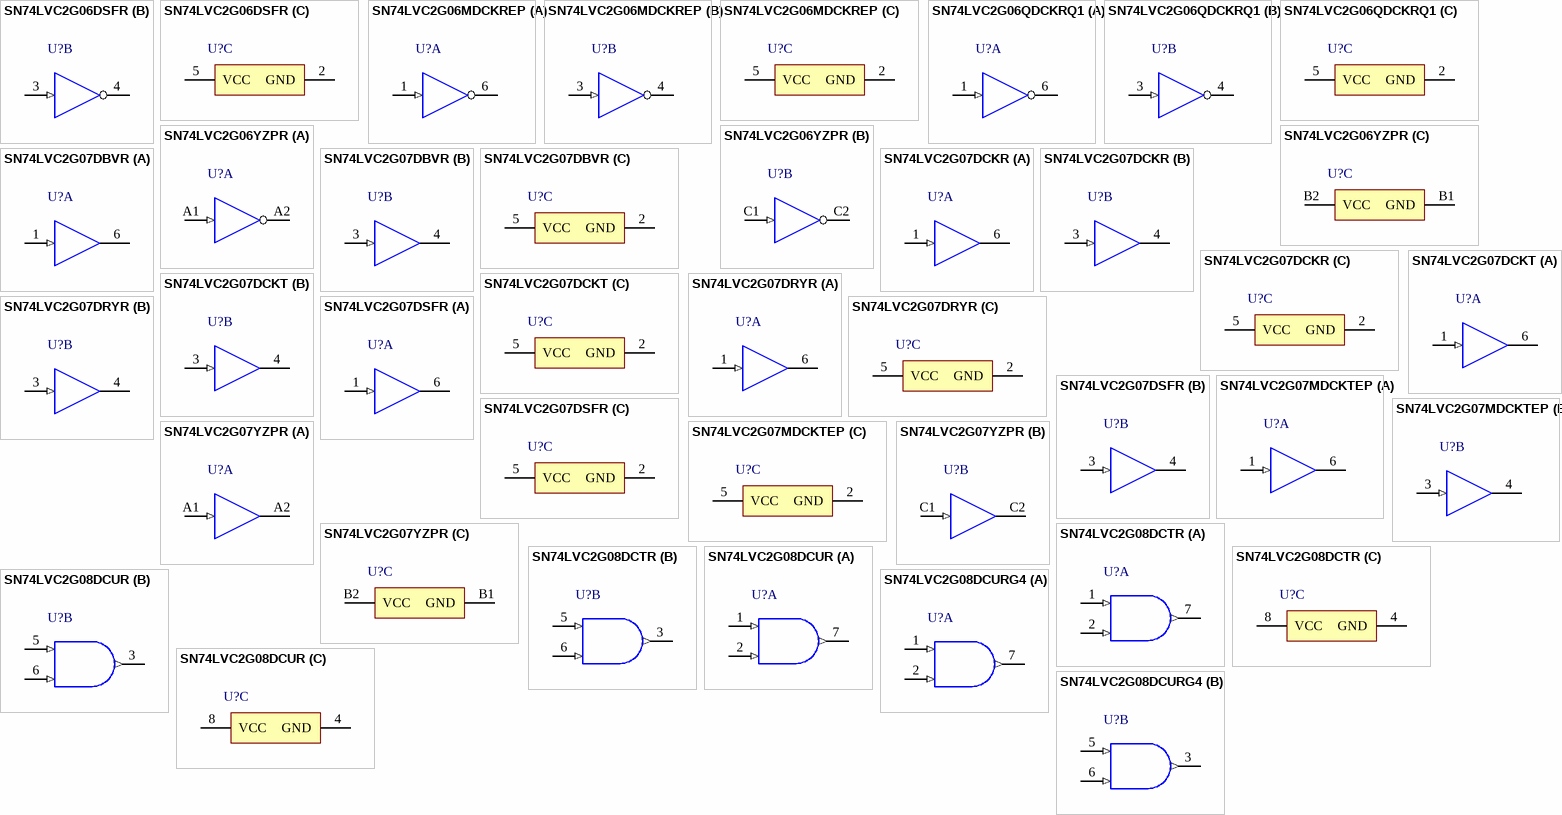
[diagram p49: symbols SN74LVC2G06DSFR to SN74LVC2G08DCURG4]

## SN74LVC2G06DSFR
designator U?
Dual Inverter Buffer/Driver with Open-Drain Output, DSF0006A, LARGE T&R; Generic Part Number: SN74LVC2G06; Manufacturer: Texas Instruments; PartNumber: SN74LVC2G06DSFR; VCC(Min)(V): 1.65; VCC(Max)(V): 5.5; Output Type: CMOS; ICC @ Nom Voltage(Max)(mA): 0.01; Input Type: CMOS/TTL; Bits(#): 2; F @ Nom Voltage(Max)(Mhz): 150; Rating: Catalog; Technology Family: LVC; Voltage(Nom)(V): 1.8,2.5,3.3,5; Schmitt Trigger: No; Output Drive (IOL/IOH)(Max)(mA): 32/-32; tpd @ Nom Voltage(Max)(ns): 8.2,4.4,3.9,3.4; Logic: Inverting; Sub-Family: Inverting Buffer/Driver; DatasheetVersion: SCES307I; PackageReference: DSF0006A; Supplier 1: Mouser; Supplier Part Number 1: 595-SN74LVC2G06DSFR; Supplier 2: Digi-Key; Supplier Part Number 2: 296-34874-2-ND; Supplier 3: Digi-Key; Supplier Part Number 3: 296-34874-1-ND; Supplier 4: Digi-Key; Supplier Part Number 4: 296-34874-6-ND; Operating Temperature Range(C): -40 to 125,-40 to 85; 3-State Output: No; ComponentLink1Description: Manufacturer URL; ComponentLink1URL: http://www.ti.com/; ComponentLink2Description: Datasheet; ComponentLink2URL: http://www.ti.com/lit/ds/symlink/sn74lvc2g06.pdf
footprint DSF0006A_V (SON, 6-Leads, Body 1x1mm, Pitch 0.35mm, TI Recommend)
part A pins: 1 1A (in), 6 1Y (oc)
part B pins: 3 2A (in), 4 2Y (oc)
part C pins: 2 GND (power), 5 VCC (power)

## SN74LVC2G06MDCKREP
designator U?
Enhanced Product Dual Inverter Buffer/Driver With Open-Drain Output, DCK0006A, LARGE T&R; Generic Part Number: SN74LVC2G06-EP; Manufacturer: Texas Instruments; PartNumber: SN74LVC2G06MDCKREP; VCC(Min)(V): 1.65; VCC(Max)(V): 5.5; Output Type: CMOS; ICC @ Nom Voltage(Max)(mA): 0.01; Input Type: CMOS/TTL; Bits(#): 2; F @ Nom Voltage(Max)(Mhz): 150; Rating: HiRel Enhanced Product; Technology Family: LVC; Voltage(Nom)(V): 1.8,2.5,3.3,5; Schmitt Trigger: No; Output Drive (IOL/IOH)(Max)(mA): 32/-32; tpd @ Nom Voltage(Max)(ns): 9.1,5.7,4.6,3.9; Logic: Inverting; Sub-Family: Inverting Buffer/Driver; DatasheetVersion: SCES660; PackageReference: DCK0006A; Supplier 1: Mouser; Supplier Part Number 1: 595-SN74L2G06MDCKREP; Supplier 2: Digi-Key; Supplier Part Number 2: 296-19879-2-ND; Supplier 3: Digi-Key; Supplier Part Number 3: 296-19879-1-ND; Supplier 4: Digi-Key; Supplier Part Number 4: 296-19879-6-ND; Operating Temperature Range(C): -55 to 125; 3-State Output: No; ComponentLink1Description: Manufacturer URL; ComponentLink1URL: http://www.ti.com/; ComponentLink2Description: Datasheet; ComponentLink2URL: http://www.ti.com/lit/ds/symlink/sn74lvc2g06-ep.pdf
footprint DCK0006A_N (SOT23, 6-Leads, Body 2.15x1.4mm, Pitch 0.65mm, IPC Medium Density)
footprint DCK0006A_M (SOT23, 6-Leads, Body 2.15x1.4mm, Pitch 0.65mm, IPC Low Density)
footprint DCK0006A_L (SOT23, 6-Leads, Body 2.15x1.4mm, Pitch 0.65mm, IPC High Density)
part A pins: 1 1A (in), 6 1Y (oc)
part B pins: 3 2A (in), 4 2Y (oc)
part C pins: 2 GND (power), 5 VCC (power)

## SN74LVC2G06QDCKRQ1
designator U?
Automotive Catalog Dual Inverter Buffer/Driver with Open-Drain Output, DCK0006A, LARGE T&R; Generic Part Number: SN74LVC2G06-Q1; Manufacturer: Texas Instruments; PartNumber: SN74LVC2G06QDCKRQ1; VCC(Min)(V): 1.65; VCC(Max)(V): 5.5; Output Type: CMOS; ICC @ Nom Voltage(Max)(mA): 0.01; Input Type: CMOS/TTL; Bits(#): 2; F @ Nom Voltage(Max)(Mhz): 150; Technology Family: LVC; Voltage(Nom)(V): 1.8,2.5,3.3,5; Schmitt Trigger: No; Output Drive (IOL/IOH)(Max)(mA): 32/-32; tpd @ Nom Voltage(Max)(ns): 7.2,3.9,3.4,2.9; Logic: Inverting; Sub-Family: Inverting Buffer/Driver; DatasheetVersion: SCES617A; PackageReference: DCK0006A; Supplier 1: Mouser; Supplier Part Number 1: 595-SN74LVC2G06QDCQ1; Supplier 2: Digi-Key; Supplier Part Number 2: 296-18615-2-ND; Supplier 3: Digi-Key; Supplier Part Number 3: 296-18615-1-ND; Supplier 4: Digi-Key; Supplier Part Number 4: 296-18615-6-ND; Operating Temperature Range(C): -40 to 125; Rating: Automotive; 3-State Output: No; ComponentLink1Description: Manufacturer URL; ComponentLink1URL: http://www.ti.com/; ComponentLink2Description: Datasheet; ComponentLink2URL: http://www.ti.com/lit/ds/symlink/sn74lvc2g06-q1.pdf
footprint DCK0006A_N (SOT23, 6-Leads, Body 2.15x1.4mm, Pitch 0.65mm, IPC Medium Density)
footprint DCK0006A_M (SOT23, 6-Leads, Body 2.15x1.4mm, Pitch 0.65mm, IPC Low Density)
footprint DCK0006A_L (SOT23, 6-Leads, Body 2.15x1.4mm, Pitch 0.65mm, IPC High Density)
part A pins: 1 1A (in), 6 1Y (oc)
part B pins: 3 2A (in), 4 2Y (oc)
part C pins: 2 GND (power), 5 VCC (power)

## SN74LVC2G06YZPR
designator U?
Dual Inverter Buffer/Driver with Open-Drain Output, YZP0006ADAD, LARGE T&R; Generic Part Number: SN74LVC2G06; Manufacturer: Texas Instruments; PartNumber: SN74LVC2G06YZPR; VCC(Min)(V): 1.65; VCC(Max)(V): 5.5; Output Type: CMOS; ICC @ Nom Voltage(Max)(mA): 0.01; Input Type: CMOS/TTL; Bits(#): 2; F @ Nom Voltage(Max)(Mhz): 150; Rating: Catalog; Technology Family: LVC; Voltage(Nom)(V): 1.8,2.5,3.3,5; Schmitt Trigger: No; Output Drive (IOL/IOH)(Max)(mA): 32/-32; tpd @ Nom Voltage(Max)(ns): 8.2,4.4,3.9,3.4; Logic: Inverting; Sub-Family: Inverting Buffer/Driver; DatasheetVersion: SCES307I; PackageReference: YZP0006ADAD; Supplier 1: Mouser; Supplier Part Number 1: 595-SN74LVC2G06YZPR; Supplier 2: Digi-Key; Supplier Part Number 2: 296-17987-2-ND; Supplier 3: Digi-Key; Supplier Part Number 3: 296-17987-1-ND; Supplier 4: Digi-Key; Supplier Part Number 4: 296-17987-6-ND; Operating Temperature Range(C): -40 to 125,-40 to 85; 3-State Output: No; ComponentLink1Description: Manufacturer URL; ComponentLink1URL: http://www.ti.com/; ComponentLink2Description: Datasheet; ComponentLink2URL: http://www.ti.com/lit/ds/symlink/sn74lvc2g06.pdf
footprint YZP0006ADAD (BGA, 6-Balls, Body 1.39x0.89mm, Pitch 0.5mm)
part A pins: A1 1A (in), A2 1Y (oc)
part B pins: C1 2A (in), C2 2Y (oc)
part C pins: B1 GND (power), B2 VCC (power)

## SN74LVC2G07DBVR
designator U?
Dual Buffer/Driver with Open-Drain Output, DBV0006A, LARGE T&R; Generic Part Number: SN74LVC2G07; Manufacturer: Texas Instruments; PartNumber: SN74LVC2G07DBVR; VCC(Min)(V): 1.65; VCC(Max)(V): 5.5; Output Type: CMOS; ICC @ Nom Voltage(Max)(mA): 0.01; Input Type: CMOS/TTL; Bits(#): 2; F @ Nom Voltage(Max)(Mhz): 150; Rating: Catalog; Technology Family: LVC; Voltage(Nom)(V): 1.8,2.5,3.3,5; Schmitt Trigger: No; Output Drive (IOL/IOH)(Max)(mA): 32/-32; tpd @ Nom Voltage(Max)(ns): 8.6,4.4,3.7,2.9; Logic: True; Sub-Family: Inverting Buffer/Driver; DatasheetVersion: SCES308K; PackageReference: DBV0006A; Supplier 1: Mouser; Supplier Part Number 1: 595-SN74LVC2G07DBVR; Supplier 2: Digi-Key; Supplier Part Number 2: 296-13494-2-ND; Supplier 3: Digi-Key; Supplier Part Number 3: 296-13494-1-ND; Supplier 4: Digi-Key; Supplier Part Number 4: 296-13494-6-ND; Operating Temperature Range(C): -40 to 125; 3-State Output: No; ComponentLink1Description: Manufacturer URL; ComponentLink1URL: http://www.ti.com/; ComponentLink2Description: Datasheet; ComponentLink2URL: http://www.ti.com/lit/ds/symlink/sn74lvc2g07.pdf
footprint DBV0006A_N (SOT23, 6-Leads, Body 3.05x1.75mm, Pitch 0.95mm, IPC Medium Density)
footprint DBV0006A_M (SOT23, 6-Leads, Body 3.05x1.75mm, Pitch 0.95mm, IPC Low Density)
footprint DBV0006A_L (SOT23, 6-Leads, Body 3.05x1.75mm, Pitch 0.95mm, IPC High Density)
part A pins: 1 1A (in) "Input 1", 6 1Y (oc) "Open-drain output 1"
part B pins: 3 2A (in) "Input 2", 4 2Y (oc) "Open-drain output 2"
part C pins: 2 GND (power) "Ground", 5 VCC (power) "Power pin"